# Altium footprint library TR-SPE-PULSE_HX5008NL.PcbLib: 1 footprints
Each footprint in its own frame and in the unit in brackets; x right, y up, seen from the top. Pads: shape width x height; smd on the part's side, far side on the other; paste and mask are expansions set on the pad; w line width, h text height; cw(c..) or ccw(c..) is an arc to the next point about the centre after c.
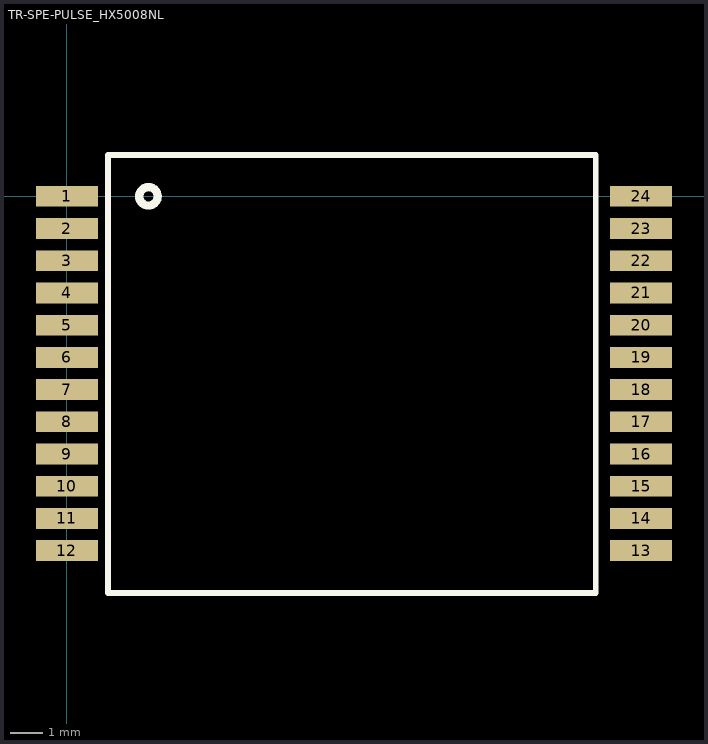
[diagram p0: the footprint, top view; thin cyan lines are the x and y axes]

## TR-SPE-PULSE_HX5008NL [mm]
pads (24):
  rect 1.905x0.64 smd: 1(0,0) 2(0,-0.99) 3(0,-1.98) 4(0,-2.97) 5(0,-3.96) 6(0,-4.95) 7(0,-5.94) 8(0,-6.93) 9(0,-7.92) 10(0,-8.91) 11(0,-9.9) 12(0,-10.89) 13(17.655,-10.89) 14(17.655,-9.9) 15(17.655,-8.91) 16(17.655,-7.92) 17(17.655,-6.93) 18(17.655,-5.94) 19(17.655,-4.95) 20(17.655,-3.96) 21(17.655,-2.97) 22(17.655,-1.98) 23(17.655,-0.99) 24(17.655,0)
Top Overlay:
  lines w0.18: 1.27,-12.192 1.27,1.27 16.256,1.27 16.256,-12.192 1.27,-12.192
  lines w0.254: 2.789,0.053 ccw(c2.51,0) 2.794,0
3D body: height 5.7, standoff -0.02, extent -0.51,-12.297 18.29,1.375